# EAGLE library part AQW212_DEV (library Photocoupler)
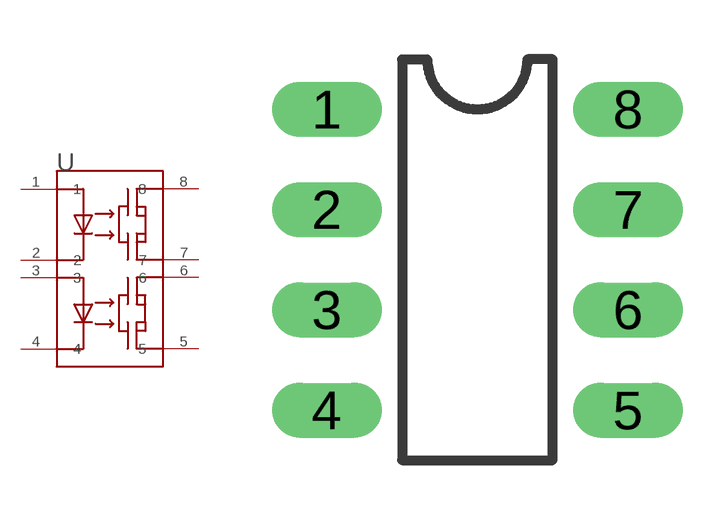
[diagram p0: symbol with the pads of AQW212_PAC; footprint AQW212_PAC]

Designator prefix -

## AQW212_DEV  [AQW212_PAC]
1  1
2  2
3  3
4  4
5  5
6  6
7  7
8  8

## Footprint AQW212_PAC (pad centres in mm)
drill 0.889 pad 1.372 long: 1 0,-2.54; 2 0,-5.08; 3 0,-7.62; 4 0,-10.16; 5 7.62,-10.16; 6 7.62,-7.62; 7 7.62,-5.08; 8 7.62,-2.54